# Altium schematic symbol library SYM-Passive.SchLib: 208 symbols (part 1 of 9)
Pins are listed as number, name and electrical type; pins without a type are passive.

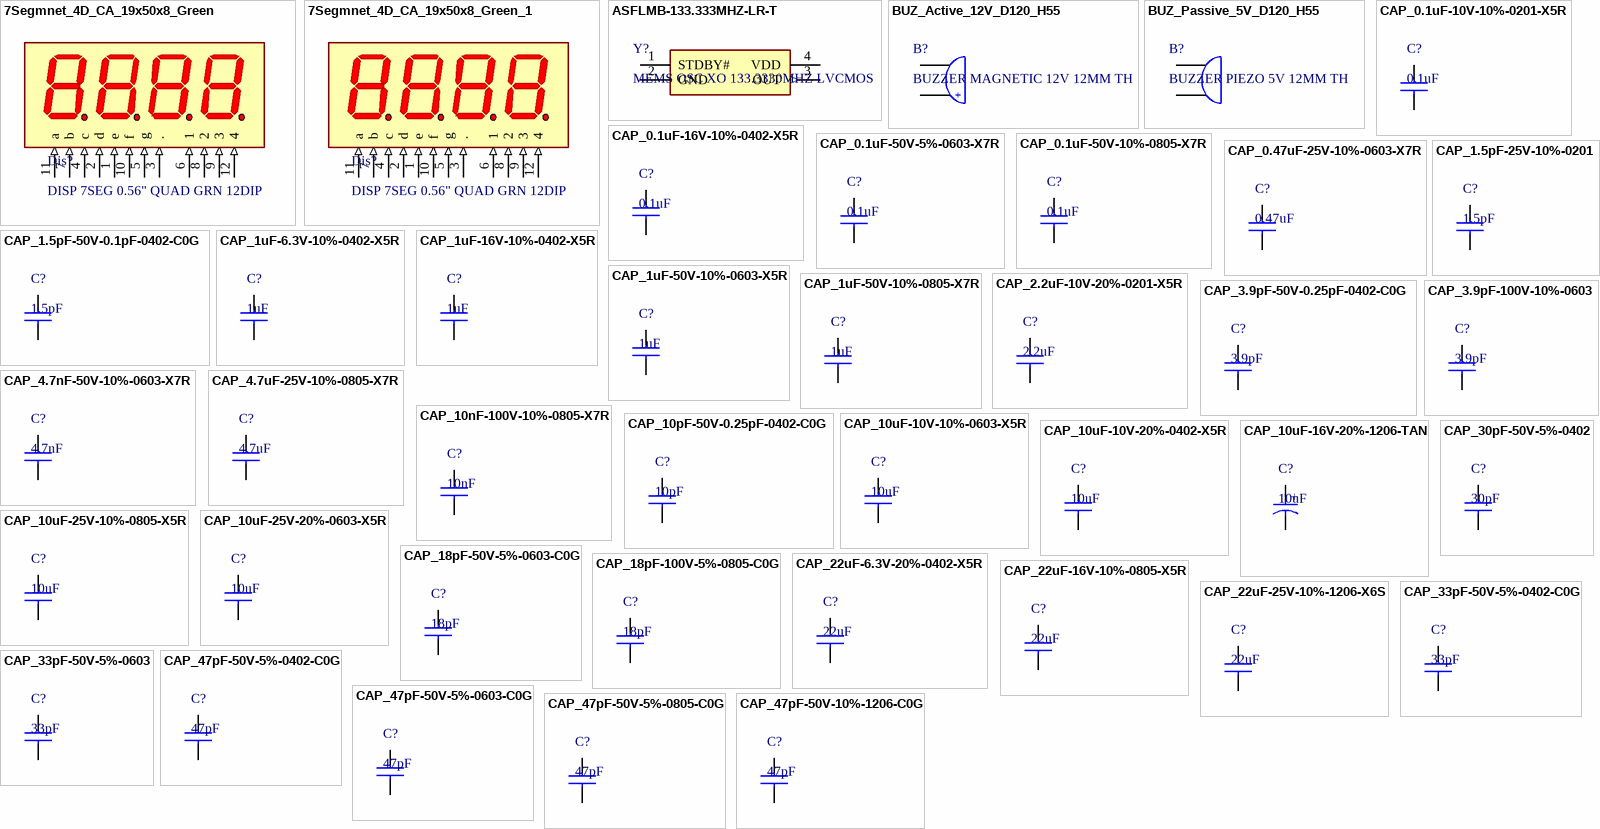
[diagram p0: symbols 7Segmnet_4D_CA_19x50x8_Green to CAP_47pF-50V-10%-1206-C0G]

## 7Segmnet_4D_CA_19x50x8_Green
designator Dis?, comment DISP 7SEG 0.56" QUAD GRN 12DIP
7-Segment Led Display, Infovue, 4, 0.56 ", Green, Common Anode, 3900 Mcd, 25 Ma; Manufacturer: Lumex; Manufacturer Part Number: LDQ-M512RI; Luminous Intensity: 3.9mcd; Forward Voltage: 2.2V; Max Power Dissipation: 105mW; Forward Current: 10mA; Operating Supply Voltage: 2.6V; Wavelength: 565nm; Supplier 1: Digi-Key; RoHS: Yes; Category: LED Displays; Stock 1: 5245; Pricing 1: 1=6/93000, 10=4/89900, 100=4/01290, 500=3/38294, 1000=3/30150 (USD); Case/Package: DIP; Color: Green; Min Operating Temperature: -40°C; Max Operating Temperature: 85°C; Package Quantity: 10; Element Configuration: Common Anode; Illumination Color: Green; Power Consumption: 105mW; Test Current: 10mA; Display Type: Segment; Length: 50.3mm; Width: 19mm; Height: 19.1mm; Lead Free: Lead Free; RoHS Compliant: Yes; ComponentLink1URL: https://datasheet.ciiva.com/1230/1423940-1230231.pdf?src-supplier=Element14; ComponentLink1Description: https://datasheet.ciiva.com/1230/1423940-1230231.pdf?src-supplier=Element14; ComponentLink2URL: https://datasheet.ciiva.com/12425/ldq-m512ri-96873-12425245.pdf?src-supplier=Mouser; ComponentLink2Description: https://datasheet.ciiva.com/12425/ldq-m512ri-96873-12425245.pdf?src-supplier=Mouser; ComponentLink3URL: https://datasheet.ciiva.com/16443/ldq-m512ri-16443706.pdf?src-supplier=Future+Electronics; ComponentLink3Description: https://datasheet.ciiva.com/16443/ldq-m512ri-16443706.pdf?src-supplier=Future+Electronics; ComponentLink4URL: https://datasheet.ciiva.com/2103/ldq-m512ri-2103901.pdf?src-supplier=Digi-Key; ComponentLink4Description: https://datasheet.ciiva.com/2103/ldq-m512ri-2103901.pdf?src-supplier=Digi-Key; Supplier Part Number 1: 67-1440-ND
footprint 7-SEGMENT_4Digit_1 (4 DIGIT 7 SEGMENT)
pins: 1 e (in), 2 d (in), 3 . (in), 4 c (in), 5 g (in), 6 1 (in), 7 b (in), 8 2 (in), 9 3 (in), 10 f (in), 11 a (in), 12 4 (in)

## 7Segmnet_4D_CA_19x50x8_Green_1
designator Dis?, comment DISP 7SEG 0.56" QUAD GRN 12DIP
7-Segment Led Display, Infovue, 4, 0.56 ", Green, Common Anode, 3900 Mcd, 25 Ma; Manufacturer: Lumex; Manufacturer Part Number: LDQ-M512RI; Luminous Intensity: 3.9mcd; Forward Voltage: 2.2V; Max Power Dissipation: 105mW; Forward Current: 10mA; Operating Supply Voltage: 2.6V; Wavelength: 565nm; Supplier 1: Digi-Key; RoHS: Yes; Category: LED Displays; Stock 1: 5245; Pricing 1: 1=6/93000, 10=4/89900, 100=4/01290, 500=3/38294, 1000=3/30150 (USD); Case/Package: DIP; Color: Green; Min Operating Temperature: -40°C; Max Operating Temperature: 85°C; Package Quantity: 10; Element Configuration: Common Anode; Illumination Color: Green; Power Consumption: 105mW; Test Current: 10mA; Display Type: Segment; Length: 50.3mm; Width: 19mm; Height: 19.1mm; Lead Free: Lead Free; RoHS Compliant: Yes; ComponentLink1URL: https://datasheet.ciiva.com/1230/1423940-1230231.pdf?src-supplier=Element14; ComponentLink1Description: https://datasheet.ciiva.com/1230/1423940-1230231.pdf?src-supplier=Element14; ComponentLink2URL: https://datasheet.ciiva.com/12425/ldq-m512ri-96873-12425245.pdf?src-supplier=Mouser; ComponentLink2Description: https://datasheet.ciiva.com/12425/ldq-m512ri-96873-12425245.pdf?src-supplier=Mouser; ComponentLink3URL: https://datasheet.ciiva.com/16443/ldq-m512ri-16443706.pdf?src-supplier=Future+Electronics; ComponentLink3Description: https://datasheet.ciiva.com/16443/ldq-m512ri-16443706.pdf?src-supplier=Future+Electronics; ComponentLink4URL: https://datasheet.ciiva.com/2103/ldq-m512ri-2103901.pdf?src-supplier=Digi-Key; ComponentLink4Description: https://datasheet.ciiva.com/2103/ldq-m512ri-2103901.pdf?src-supplier=Digi-Key; Supplier Part Number 1: 67-1440-ND
footprint 7-SEGMENT_4Digit_1 (4 DIGIT 7 SEGMENT)
pins: 1 e (in), 2 d (in), 3 . (in), 4 c (in), 5 g (in), 6 1 (in), 7 b (in), 8 2 (in), 9 3 (in), 10 f (in), 11 a (in), 12 4 (in)

## ASFLMB-133.333MHZ-LR-T
designator Y?, comment MEMS OSC XO 133.3330MHZ LVCMOS
Oscillator MEMS 133.333MHz ±25ppm (Stability) 15pF LVCMOS 55% 1.8V/2.5V/3.3V Automotive 4-Pin QFN SMD T/R; Manufacturer: Abracon; Manufacturer Part Number: ASFLMB-133.333MHZ-LR-T; Max Supply Current: 16mA; Supplier 1: Digi-Key; RoHS: Yes; Category: Oscillators; Pricing 1: 1000=1/60080 (USD); Mount: Surface Mount; Case/Package: SMD/SMT; Min Operating Temperature: -40°C; Max Operating Temperature: 85°C; Frequency Stability: 25ppm; Frequency: 133.333MHz; Packaging: Cut Tape; Length: 0.197inch; Width: 0.126inch; Height: 0.035inch; ComponentLink1URL: https://datasheet.ciiva.com/869/memspeedproflyerii-869792.pdf?src-supplier=Digi-Key; ComponentLink1Description: https://datasheet.ciiva.com/869/memspeedproflyerii-869792.pdf?src-supplier=Digi-Key; ComponentLink2URL: https://datasheet.ciiva.com/869/memspeedproflyerii-869793.pdf?src-supplier=Digi-Key; ComponentLink2Description: https://datasheet.ciiva.com/869/memspeedproflyerii-869793.pdf?src-supplier=Digi-Key; ComponentLink3URL: https://datasheet.ciiva.com/869/memspeedproflyerii-869791.pdf?src-supplier=Digi-Key; ComponentLink3Description: https://datasheet.ciiva.com/869/memspeedproflyerii-869791.pdf?src-supplier=Digi-Key; Supplier Part Number 1: 535-11077-2-ND
footprint DFN254P500X90-4N (DFN, 4-Leads, Body 3/20x5/00mm, Pitch 2/54mm, IPC Medium Density)
pins: 1 STDBY#, 2 GND (power), 3 OUT (out), 4 VDD (power)

## BUZ_Active_12V_D120_H55
designator B?, comment BUZZER MAGNETIC 12V 12MM TH
Audio Indicator Indicator Piezo 12Vdc 30mA Pin 8Vdc 2000Hz to 2600Hz Through Hole; Manufacturer: Projects Unlimited; Manufacturer Part Number: AI-1223-TWT-12V-3-R; Frequency: 2.3kHz; Min Supply Voltage (DC): 8V; Max Supply Voltage (DC): 16V; Supplier 1: Digi-Key; RoHS: Yes; Category: Audio Products; Stock 1: 6499; Pricing 1: 1=1/97000, 10=1/63300, 25=1/50960, 40=1/41950, 100=1/33270, 500=1/14400, 1000=1/11720 (USD); Mount: Through Hole; Contact Plating: Gold; Min Operating Temperature: -20°C; Max Operating Temperature: 70°C; Sensing Method: Magnetic; Packaging: Tray; Voltage Rating: 12V; Operating Supply Current: 30mA; Termination: PC Pins; Max Supply Current: 30mA; Nominal Supply Voltage (DC): 12V; Diameter: 12mm; Height: 9.5mm; ComponentLink1URL: http://www.mouser.com/ds/2/334/AI-1223-TWT-12V-3-R-532307.pdf?src-supplier=Mouser; ComponentLink1Description: http://www.mouser.com/ds/2/334/AI-1223-TWT-12V-3-R-532307.pdf?src-supplier=Mouser; ComponentLink2URL: http://www.puiaudio.com/pdf/AI-1223-TWT-12V-3-R.pdf?src-supplier=Avnet; ComponentLink2Description: http://www.puiaudio.com/pdf/AI-1223-TWT-12V-3-R.pdf?src-supplier=Avnet; ComponentLink3URL: http://www.puiaudio.com/pdf/AI-1223-TWT-12V-3-R.pdf?src-supplier=Digi-Key; ComponentLink3Description: http://www.puiaudio.com/pdf/AI-1223-TWT-12V-3-R.pdf?src-supplier=Digi-Key; Supplier Part Number 1: 668-1455-ND
footprint Buzzer-D12
pins: 1 41, 2 +

## BUZ_Passive_5V_D120_H55
designator B?, comment BUZZER PIEZO 5V 12MM TH
Audio Indicator Piezo 3VDC 5VDC 5mA 5VDC 80dBA 3900Hz to 4300Hz Through Hole Pin Bulk; Manufacturer: Mallory Sonalert; Manufacturer Part Number: PK-11N40PQ; Frequency: 4.1kHz; Supplier 1: Digi-Key; RoHS: Yes; Category: Audio Products; Stock 1: 1404; Pricing 1: 1=3/91000, 10=3/23700, 25=2/98720, 50=2/80540, 100=2/63060, 500=2/32178 (USD); Mount: Through Hole; Min Operating Temperature: -20°C; Max Operating Temperature: 100°C; Packaging: Bulk; Voltage Rating: 5V; Termination: PC Pins; Operating Supply Current: 5mA; ComponentLink1URL: http://www.mouser.com/ds/2/252/PAG-Indicators-Piezo-594425.pdf?src-supplier=Mouser; ComponentLink1Description: http://www.mouser.com/ds/2/252/PAG-Indicators-Piezo-594425.pdf?src-supplier=Mouser; ComponentLink2URL: http://www.alliedelec.com/images/products/datasheets/bm/MALLORY_SONALERT_PRODUCTS_INC/70364538.pdf?src-supplier=Allied+Electronics; ComponentLink2Description: http://www.alliedelec.com/images/products/datasheets/bm/MALLORY_SONALERT_PRODUCTS_INC/70364538.pdf?src-supplier=Allied+Electronics; ComponentLink3URL: https://www.mspindy.com/Specifications/PK-11N40PQ.pdf?src-supplier=Digi-Key; ComponentLink3Description: https://www.mspindy.com/Specifications/PK-11N40PQ.pdf?src-supplier=Digi-Key; Supplier Part Number 1: 458-1342-ND
footprint Buzzer-D12
pins: 1 41, 2 +

## CAP_0.1uF-10V-10%-0201-X5R
designator C?, comment 0.1uF
Cap Ceramic 0.1uF 10V X5R 10% Pad SMD 0201 85C T/R; Manufacturer: Samsung; Manufacturer Part Number: CL03A104KP3NNNC; Capacitance: 100nF; Supplier 1: Digi-Key; RoHS: Yes; Category: Ceramic Capacitors; Stock 1: 10669504; Pricing 1: 1=0/10000, 10=0/03100, 50=0/01660, 100=0/01360, 500=0/00974, 1000=0/00765, 2500=0/00696, 5000=0/00640 (USD); Mount: Surface Mount; Case/Package: 0201; Case Code (Metric): 0603; Case Code (Imperial): 0201; Contact Plating: Tin; Min Operating Temperature: -55°C; Max Operating Temperature: 85°C; Packaging: Tape and Reel; Tolerance: 10%; Package Quantity: 1; Voltage Rating: 10V; Dielectric: X5R; Voltage Rating (DC): 10V; Series: CL; Construction: Flat; Length: 0.6mm; Width: 0.012inch; Height: 0.3mm; Thickness: 0.013inch; Depth: 0.3mm; Radiation Hardening: No; Lead Free: Lead Free; ComponentLink1URL: https://datasheet.ciiva.com/25803/cl03a104kp3nnnc-25803204.pdf?src-supplier=Digi-Key; ComponentLink1Description: https://datasheet.ciiva.com/25803/cl03a104kp3nnnc-25803204.pdf?src-supplier=Digi-Key; ComponentLink2URL: https://datasheet.ciiva.com/26838/getdatasheetpartid-357484-26838083.pdf?src-supplier=Verical; ComponentLink2Description: https://datasheet.ciiva.com/26838/getdatasheetpartid-357484-26838083.pdf?src-supplier=Verical; Supplier Part Number 1: 1276-1115-1-ND
footprint CAPC0603X03N - 0201 (Chip Capacitor, 2-Leads, Body 0/60x0/30mm, IPC Medium Density)
footprint CAPC0603X03L - 0201 (Chip Capacitor, 2-Leads, Body 0/60x0/30mm, IPC High Density)
footprint CAPC0603X03M - 0201 (Chip Capacitor, 2-Leads, Body 0/60x0/30mm, IPC Low Density)
pins: 1, 2

## CAP_0.1uF-16V-10%-0402-X5R
designator C?, comment 0.1uF
Cap Ceramic 0.1uF 16V X5R 10% SMD 0402 85°C Paper T/R; Manufacturer: Samsung; Manufacturer Part Number: CL05A104KO5NNNC; Capacitance: 100nF; Supplier 1: Digi-Key; RoHS: Yes; Category: Ceramic Capacitors; Stock 1: 7494; Pricing 1: 1=0/10000, 10=0/02400, 50=0/01340, 100=0/01090, 500=0/00778, 1000=0/00611, 2500=0/00556, 5000=0/00511 (USD); Mount: Surface Mount; Case/Package: 0402; Case Code (Metric): 1005; Case Code (Imperial): 0402; Material: Ceramic; Min Operating Temperature: -55°C; Max Operating Temperature: 85°C; Tolerance: 10%; Voltage Rating: 16V; Packaging: Tape and Reel; Dielectric: X5R; Series: CL; Construction: Flat; Length: 1mm; Width: 0.02inch; Height: 0.5mm; Thickness: 0.022inch; Depth: 0.5mm; Radiation Hardening: No; RoHS Compliant: Yes; ComponentLink1URL: https://datasheet.ciiva.com/16207/cl05a104ko5nnnc-16207569.pdf?src-supplier=Future+Electronics; ComponentLink1Description: https://datasheet.ciiva.com/16207/cl05a104ko5nnnc-16207569.pdf?src-supplier=Future+Electronics; ComponentLink2URL: https://datasheet.ciiva.com/26838/getdatasheetpartid-355271-26838147.pdf?src-supplier=Verical; ComponentLink2Description: https://datasheet.ciiva.com/26838/getdatasheetpartid-355271-26838147.pdf?src-supplier=Verical; ComponentLink3URL: https://datasheet.ciiva.com/25709/cl05a104ko5nnnc-25709188.pdf?src-supplier=Digi-Key; ComponentLink3Description: https://datasheet.ciiva.com/25709/cl05a104ko5nnnc-25709188.pdf?src-supplier=Digi-Key; ComponentLink4URL: https://datasheet.ciiva.com/29198/556090-da-01-en-vs-kondensator-0402-100-0nf-16v-10000st-29198108.pdf?src-supplier=Conrad; ComponentLink4Description: https://datasheet.ciiva.com/29198/556090-da-01-en-vs-kondensator-0402-100-0nf-16v-10000st-29198108.pdf?src-supplier=Conrad; Supplier Part Number 1: 1276-1234-1-ND
footprint CAPC1005X07N - 0402 (Chip Capacitor, 2-Leads, Body 1/00x0/50mm, IPC Medium Density)
footprint CAPC1005X07M - 0402 (Chip Capacitor, 2-Leads, Body 1/00x0/50mm, IPC Low Density)
footprint CAPC1005X07L - 0402 (Chip Capacitor, 2-Leads, Body 1/00x0/50mm, IPC High Density)
pins: 1, 2

## CAP_0.1uF-50V-5%-0603-X7R
designator C?, comment 0.1uF
General, Standard, Normal, 125℃, 0603, RoHS; Manufacturer: Samsung; Manufacturer Part Number: CL10B104JB8NNND; Dielectric: X7R; Voltage Rating (DC): 50V; Tolerance: 5%; Capacitance: 100nF; Supplier 1: Digi-Key; RoHS: Yes; Category: Ceramic Capacitors; Pricing 1: 100000=0/00531 (USD); Case/Package: 0603; RoHS Compliant: Yes; Supplier Part Number 1: 1276-CL10B104JB8NNNDTR-ND
footprint CAPC1608X07N - 0603 (Chip Capacitor, 2-Leads, Body 1/60x0/80mm, IPC Medium Density)
footprint CAPC1608X07M - 0603 (Chip Capacitor, 2-Leads, Body 1/60x0/80mm, IPC Low Density)
footprint CAPC1608X07L - 0603 (Chip Capacitor, 2-Leads, Body 1/60x0/80mm, IPC High Density)
pins: 1, 2

## CAP_0.1uF-50V-10%-0805-X7R
designator C?, comment 0.1uF
Ceramic capacitor SMD-0805 100nF /50V X7R# K +-10%, Samsung, RoHS; Manufacturer Part Number: CL21B104KBCNNNC; Tolerance: 10%; Voltage Rating: 50V; Dielectric: X7R; Supplier 1: Digi-Key; Manufacturer: Samsung; RoHS: Yes; Category: Ceramic Capacitors; Stock 1: 3723691; Pricing 1: 1=0/10000, 10=0/04800, 50=0/02620, 100=0/02140, 500=0/01528, 1000=0/01201 (USD); Mount: Surface Mount; Case/Package: 0805; Case Code (Metric): 2012; Case Code (Imperial): 0805; Material: Ceramic; Contact Plating: Tin; Min Operating Temperature: -55°C; Max Operating Temperature: 125°C; Packaging: Tape and Reel; Capacitance: 100nF; Voltage: 50V; Voltage Rating (DC): 50V; Series: CL; Construction: Flat; Length: 2mm; Width: 0.049inch; Height: 0.85mm; Thickness: 0.037inch; Depth: 1.25mm; Radiation Hardening: No; Lead Free: Lead Free; RoHS Compliant: Yes; ComponentLink1URL: https://datasheet.ciiva.com/25710/cl21b104kbcnnnc-25710182.pdf?src-supplier=Digi-Key; ComponentLink1Description: https://datasheet.ciiva.com/25710/cl21b104kbcnnnc-25710182.pdf?src-supplier=Digi-Key; ComponentLink2URL: https://datasheet.ciiva.com/29199/454152-da-01-en-vs-kondensator-0805-29199814.pdf?src-supplier=Conrad; ComponentLink2Description: https://datasheet.ciiva.com/29199/454152-da-01-en-vs-kondensator-0805-29199814.pdf?src-supplier=Conrad; Supplier Part Number 1: 1276-1003-1-ND
footprint CAPC2012X14N - 0805 (Chip Capacitor, 2-Leads, Body 2/00x1/25mm, IPC Medium Density)
footprint CAPC2012X14M - 0805 (Chip Capacitor, 2-Leads, Body 2/00x1/25mm, IPC Low Density)
footprint CAPC2012X14L - 0805 (Chip Capacitor, 2-Leads, Body 2/00x1/25mm, IPC High Density)
pins: 1, 2

## CAP_0.47uF-25V-10%-0603-X7R
designator C?, comment 0.47uF
CAP CER 0.47UF 25V X7R 0603; Manufacturer: Murata; Manufacturer Part Number: GRM188R71E474KA12D; Material: Ceramic; Tolerance: 10%; Capacitance: 470nF; Voltage: 50V; Supplier 1: Digi-Key; RoHS: Yes; Category: Ceramic Capacitors; Stock 1: 1825634; Pricing 1: 1=0/20000, 10=0/13400, 50=0/08040, 100=0/06800, 500=0/04650, 1000=0/04114 (USD); Mount: Surface Mount; Case/Package: 0603; Number of Pins: 2; Case Code (Metric): 1608; Case Code (Imperial): 0603; Min Operating Temperature: -55°C; Max Operating Temperature: 125°C; Packaging: Cut Tape; Voltage Rating: 25V; Package Quantity: 4000; Voltage Rating (DC): 25V; Dielectric: X7R; Termination: SMD/SMT; Series: GRM; Construction: Flat; Length: 1.6mm; Width: 0.031inch; Height: 0.8mm; Thickness: 0.035inch; Depth: 0.8mm; REACH SVHC: No SVHC; Lead Free: Lead Free; RoHS Compliant: Yes; ComponentLink1URL: https://datasheet.ciiva.com/7937/1747458-7937650.pdf?src-supplier=Element14; ComponentLink1Description: https://datasheet.ciiva.com/7937/1747458-7937650.pdf?src-supplier=Element14; ComponentLink2URL: https://datasheet.ciiva.com/34302/1857559-34302862.pdf?src-supplier=Jameco; ComponentLink2Description: https://datasheet.ciiva.com/34302/1857559-34302862.pdf?src-supplier=Jameco; ComponentLink3URL: https://datasheet.ciiva.com/134/grm188r71e474ka12-01-134310.pdf?src-supplier=Digi-Key; ComponentLink3Description: https://datasheet.ciiva.com/134/grm188r71e474ka12-01-134310.pdf?src-supplier=Digi-Key; ComponentLink4URL: https://datasheet.ciiva.com/16293/grm188r71e474ka12d-16293088.pdf?src-supplier=Future+Electronics; ComponentLink4Description: https://datasheet.ciiva.com/16293/grm188r71e474ka12d-16293088.pdf?src-supplier=Future+Electronics; ComponentLink5URL: https://datasheet.ciiva.com/29199/454518-da-01-en-vs-kondensator-0603-29199596.pdf?src-supplier=Conrad; ComponentLink5Description: https://datasheet.ciiva.com/29199/454518-da-01-en-vs-kondensator-0603-29199596.pdf?src-supplier=Conrad; ComponentLink6URL: https://datasheet.ciiva.com/22703/1747458-22703340.pdf?src-supplier=Element14; ComponentLink6Description: https://datasheet.ciiva.com/22703/1747458-22703340.pdf?src-supplier=Element14; ComponentLink7URL: https://datasheet.ciiva.com/134/grm188r71e474ka12-01-134309.pdf?src-supplier=Digi-Key; ComponentLink7Description: https://datasheet.ciiva.com/134/grm188r71e474ka12-01-134309.pdf?src-supplier=Digi-Key; ComponentLink8URL: https://datasheet.ciiva.com/134/grm188r71e474ka12-01-134308.pdf?src-supplier=Digi-Key; ComponentLink8Description: https://datasheet.ciiva.com/134/grm188r71e474ka12-01-134308.pdf?src-supplier=Digi-Key; Supplier Part Number 1: 490-3291-1-ND
footprint CAPC1608X07N - 0603 (Chip Capacitor, 2-Leads, Body 1/60x0/80mm, IPC Medium Density)
footprint CAPC1608X07M - 0603 (Chip Capacitor, 2-Leads, Body 1/60x0/80mm, IPC Low Density)
footprint CAPC1608X07L - 0603 (Chip Capacitor, 2-Leads, Body 1/60x0/80mm, IPC High Density)
pins: 1, 2

## CAP_1.5pF-25V-10%-0201
designator C?, comment 1.5pF
Cap Ceramic 1.5pF 25V C0G 0.1pF SMD 0201 125C Paper T/R; Manufacturer: Johanson; Manufacturer Part Number: 250R05L1R5BV4T; Supplier 1: Digi-Key; RoHS: Yes; Category: Ceramic Capacitors; Stock 1: 781784; Pricing 1: 1=0/19000, 10=0/13200, 50=0/07500, 100=0/06220, 500=0/04362, 1000=0/03611, 2500=0/03360, 5000=0/03074 (USD); Mount: Surface Mount; Case/Package: 0201; Number of Pins: 2; Case Code (Imperial): 0201; Case Code (Metric): 0603; Contact Plating: Tin; Min Operating Temperature: -55°C; Max Operating Temperature: 125°C; Voltage Rating: 25V; Capacitance: 1.5pF; Packaging: Tape and Reel; Termination: SMD/SMT; Series: L; Voltage Rating (DC): 25V; Package Quantity: 15000; Dielectric: C0G; Construction: Flat; Length: 0.6mm; Width: 0.3mm; Height: 0.3mm; Thickness: 0.013inch; Depth: 0.3mm; REACH SVHC: No SVHC; RoHS Compliant: Yes; ComponentLink1URL: https://datasheet.ciiva.com/1470/1318610-1470404.pdf?src-supplier=Farnell; ComponentLink1Description: https://datasheet.ciiva.com/1470/1318610-1470404.pdf?src-supplier=Farnell; ComponentLink2URL: https://datasheet.ciiva.com/22697/1731432-22697448.pdf?src-supplier=Element14; ComponentLink2Description: https://datasheet.ciiva.com/22697/1731432-22697448.pdf?src-supplier=Element14; ComponentLink3URL: https://datasheet.ciiva.com/1461/1731432-1461261.pdf?src-supplier=Element14; ComponentLink3Description: https://datasheet.ciiva.com/1461/1731432-1461261.pdf?src-supplier=Element14; Supplier Part Number 1: 712-1185-1-ND
footprint CAPC0603X03N - 0201 (Chip Capacitor, 2-Leads, Body 0/60x0/30mm, IPC Medium Density)
footprint CAPC0603X03M - 0201 (Chip Capacitor, 2-Leads, Body 0/60x0/30mm, IPC Low Density)
footprint CAPC0603X03L - 0201 (Chip Capacitor, 2-Leads, Body 0/60x0/30mm, IPC High Density)
pins: 1, 2

## CAP_1.5pF-50V-0.1pF-0402-C0G
designator C?, comment 1.5pF
Cap Ceramic 1.5pF 50V C0G 0.1pF SMD 0402 125°C Paper T/R; Manufacturer: Samsung; Manufacturer Part Number: CL05C1R5BB5NNNC; Tolerance: 0.1%; Temperature Coefficient: 300ppm/°C; Supplier 1: Digi-Key; RoHS: Yes; Category: Ceramic Capacitors; Stock 1: 515829; Pricing 1: 1=0/10000, 10=0/03300, 50=0/01780, 100=0/01460, 500=0/01042, 1000=0/00819, 2500=0/00745, 5000=0/00685 (USD); Mount: Surface Mount; Case/Package: 0402; Case Code (Metric): 1005; Case Code (Imperial): 0402; Min Operating Temperature: -55°C; Max Operating Temperature: 125°C; Capacitance: 1.5pF; Packaging: Tape and Reel; Voltage Rating: 50V; Dielectric: C0G; Voltage: 50V; Voltage Rating (DC): 50V; Series: CL; Construction: Flat; Length: 1mm; Width: 0.02inch; Height: 0.5mm; Thickness: 0.022inch; Depth: 0.5mm; Radiation Hardening: No; Lead Free: Lead Free; RoHS Compliant: Yes; ComponentLink1URL: https://datasheet.ciiva.com/16428/cl05c1r5bb5nnnc-16428802.pdf?src-supplier=Future+Electronics; ComponentLink1Description: https://datasheet.ciiva.com/16428/cl05c1r5bb5nnnc-16428802.pdf?src-supplier=Future+Electronics; ComponentLink2URL: https://datasheet.ciiva.com/15195/getdatasheetpartid-499847-15195675.pdf?src-supplier=Verical; ComponentLink2Description: https://datasheet.ciiva.com/15195/getdatasheetpartid-499847-15195675.pdf?src-supplier=Verical; ComponentLink3URL: https://datasheet.ciiva.com/26310/mlcc-catalogdownload2013-eng-26310345.pdf?src-supplier=Distrelec; ComponentLink3Description: https://datasheet.ciiva.com/26310/mlcc-catalogdownload2013-eng-26310345.pdf?src-supplier=Distrelec; Supplier Part Number 1: 1276-1656-1-ND
footprint CAPC1005X07N - 0402 (Chip Capacitor, 2-Leads, Body 1/00x0/50mm, IPC Medium Density)
footprint CAPC1005X07M - 0402 (Chip Capacitor, 2-Leads, Body 1/00x0/50mm, IPC Low Density)
footprint CAPC1005X07L - 0402 (Chip Capacitor, 2-Leads, Body 1/00x0/50mm, IPC High Density)
pins: 1, 2

## CAP_1uF-6.3V-10%-0402-X5R
designator C?, comment 1uF
0402 1 uF 6.3 V ±10% Tolerance X5R SMT Multilayer Ceramic Capacitor; Manufacturer: Yageo; Manufacturer Part Number: CC0402KRX5R5BB105; Voltage Rating: 6.3V; Supplier 1: Digi-Key; RoHS: Yes; Category: Ceramic Capacitors; Stock 1: 2269; Pricing 1: 1=0/12000, 10=0/08700, 50=0/04780, 100=0/03900, 500=0/02784, 1000=0/02187, 2500=0/01988, 5000=0/01829 (USD); Mount: Surface Mount; Case/Package: 0402; Number of Pins: 2; Case Code (Metric): 1005; Case Code (Imperial): 0402; Dielectric Material: Ceramic; Min Operating Temperature: -55°C; Max Operating Temperature: 85°C; Capacitance: 1uF; Tolerance: 10%; Voltage Rating (DC): 6.3V; Package Quantity: 1; Packaging: Tape and Reel; Dielectric: X5R; Termination: SMD/SMT; Resistor Type: Ceramic; Series: CC; Length: 1mm; Width: 0.02inch; Height: 0.5mm; Thickness: 0.022inch; Depth: 0.5mm; Radiation Hardening: No; REACH SVHC: No SVHC; Lead Free: Lead Free; Halogen Free: Halogen Free; RoHS Compliant: Yes; ComponentLink1URL: https://datasheet.ciiva.com/5789/70765-5789520.pdf?src-supplier=Farnell; ComponentLink1Description: https://datasheet.ciiva.com/5789/70765-5789520.pdf?src-supplier=Farnell; ComponentLink2URL: https://datasheet.ciiva.com/176/mlccorderingcode-176609.pdf?src-supplier=Digi-Key; ComponentLink2Description: https://datasheet.ciiva.com/176/mlccorderingcode-176609.pdf?src-supplier=Digi-Key; ComponentLink3URL: https://datasheet.ciiva.com/176/mlccorderingcode-176610.pdf?src-supplier=Digi-Key; ComponentLink3Description: https://datasheet.ciiva.com/176/mlccorderingcode-176610.pdf?src-supplier=Digi-Key; ComponentLink4URL: https://datasheet.ciiva.com/176/mlccorderingcode-176611.pdf?src-supplier=Digi-Key; ComponentLink4Description: https://datasheet.ciiva.com/176/mlccorderingcode-176611.pdf?src-supplier=Digi-Key; ComponentLink5URL: https://datasheet.ciiva.com/8033/1525783-8033643.pdf?src-supplier=Element14; ComponentLink5Description: https://datasheet.ciiva.com/8033/1525783-8033643.pdf?src-supplier=Element14; ComponentLink6URL: https://datasheet.ciiva.com/16624/upy-gphc-x5r-4v-to-50v-12-16624731.pdf?src-supplier=Avnet+Europe; ComponentLink6Description: https://datasheet.ciiva.com/16624/upy-gphc-x5r-4v-to-50v-12-16624731.pdf?src-supplier=Avnet+Europe; ComponentLink7URL: https://datasheet.ciiva.com/8033/1525783-8033644.pdf?src-supplier=Element14; ComponentLink7Description: https://datasheet.ciiva.com/8033/1525783-8033644.pdf?src-supplier=Element14; ComponentLink8URL: https://datasheet.ciiva.com/28450/1359354-28450285.pdf?src-supplier=Element14; ComponentLink8Description: https://datasheet.ciiva.com/28450/1359354-28450285.pdf?src-supplier=Element14; ComponentLink9URL: https://datasheet.ciiva.com/8033/70765-8033646.pdf?src-supplier=Element14; ComponentLink9Description: https://datasheet.ciiva.com/8033/70765-8033646.pdf?src-supplier=Element14; ComponentLink10URL: https://datasheet.ciiva.com/11464/upy-gphc-x5r-4v-to-50v-12-11464863.pdf?src-supplier=Avnet; ComponentLink10Description: https://datasheet.ciiva.com/11464/upy-gphc-x5r-4v-to-50v-12-11464863.pdf?src-supplier=Avnet; Supplier Part Number 1: 311-1438-1-ND
footprint CAPC1005X07N - 0402 (Chip Capacitor, 2-Leads, Body 1/00x0/50mm, IPC Medium Density)
footprint CAPC1005X07M - 0402 (Chip Capacitor, 2-Leads, Body 1/00x0/50mm, IPC Low Density)
footprint CAPC1005X07L - 0402 (Chip Capacitor, 2-Leads, Body 1/00x0/50mm, IPC High Density)
pins: 1, 2

## CAP_1uF-16V-10%-0402-X5R
designator C?, comment 1uF
CAP CER 1UF 16V X5R 0402; Manufacturer: Samsung; Manufacturer Part Number: CL05A105KO5NNNC; Tolerance: 10%; Supplier 1: Digi-Key; RoHS: Yes; Category: Ceramic Capacitors; Stock 1: 6552159; Pricing 1: 1=0/10000, 10=0/04000, 50=0/02200, 100=0/01800, 500=0/01286, 1000=0/01011, 2500=0/00919, 5000=0/00846 (USD); Mount: Surface Mount; Case/Package: 0402; Case Code (Metric): 1005; Case Code (Imperial): 0402; Contact Plating: Tin; Min Operating Temperature: -55°C; Max Operating Temperature: 85°C; Packaging: Tape and Reel; Capacitance: 1uF; Package Quantity: 1; Voltage Rating: 16V; Dielectric: X5R; Voltage: 16V; Series: CL; Construction: Flat; Length: 1mm; Width: 0.02inch; Height: 0.5mm; Thickness: 0.022inch; Depth: 0.5mm; Radiation Hardening: No; RoHS Compliant: Yes; ComponentLink1URL: https://datasheet.ciiva.com/16207/cl05a105ko5nnnc-16207571.pdf?src-supplier=Future+Electronics; ComponentLink1Description: https://datasheet.ciiva.com/16207/cl05a105ko5nnnc-16207571.pdf?src-supplier=Future+Electronics; ComponentLink2URL: https://datasheet.ciiva.com/15195/getdatasheetpartid-355272-15195629.pdf?src-supplier=Verical; ComponentLink2Description: https://datasheet.ciiva.com/15195/getdatasheetpartid-355272-15195629.pdf?src-supplier=Verical; Supplier Part Number 1: 1276-1067-1-ND
footprint CAPC1005X07N - 0402 (Chip Capacitor, 2-Leads, Body 1/00x0/50mm, IPC Medium Density)
footprint CAPC1005X07M - 0402 (Chip Capacitor, 2-Leads, Body 1/00x0/50mm, IPC Low Density)
footprint CAPC1005X07L - 0402 (Chip Capacitor, 2-Leads, Body 1/00x0/50mm, IPC High Density)
pins: 1, 2

## CAP_1uF-50V-10%-0603-X5R
designator C?, comment 1uF
Ceramic capacitor SMD-0603 1000nF/50V X5R# K +-10%, Samsung, RoHS; Manufacturer Part Number: CL10A105KB8NNNC; Tolerance: 10%; Voltage Rating: 50V; Dielectric: X5R; Supplier 1: Digi-Key; Manufacturer: Samsung; RoHS: Yes; Category: Ceramic Capacitors; Pricing 1: 1=0/15000, 10=0/10700, 50=0/06060, 100=0/05030, 500=0/03526, 1000=0/02919 (USD); Mount: Surface Mount; Case/Package: 0603; Case Code (Metric): 1608; Case Code (Imperial): 0603; Contact Plating: Tin; Min Operating Temperature: -55°C; Max Operating Temperature: 85°C; Package Quantity: 1; Packaging: Tape and Reel; Capacitance: 1uF; Termination: Wraparound; Series: CL; Construction: Flat; Length: 1.6mm; Width: 0.031inch; Thickness: 0.035inch; Depth: 0.8mm; Radiation Hardening: No; RoHS Compliant: Yes; ComponentLink1URL: https://datasheet.ciiva.com/26877/getdatasheetpartid-753736-26877879.pdf?src-supplier=Verical; ComponentLink1Description: https://datasheet.ciiva.com/26877/getdatasheetpartid-753736-26877879.pdf?src-supplier=Verical; Supplier Part Number 1: 1276-1860-1-ND
footprint CAPC1608X07N - 0603 (Chip Capacitor, 2-Leads, Body 1/60x0/80mm, IPC Medium Density)
footprint CAPC1608X07M - 0603 (Chip Capacitor, 2-Leads, Body 1/60x0/80mm, IPC Low Density)
footprint CAPC1608X07L - 0603 (Chip Capacitor, 2-Leads, Body 1/60x0/80mm, IPC High Density)
pins: 1, 2

## CAP_1uF-50V-10%-0805-X7R
designator C?, comment 1uF
Cap Ceramic 1uF 50V X7R 10% SMD 0805 125°C Embossed Plastic T/R; Manufacturer: Samsung; Manufacturer Part Number: CL21B105KBFNNNG; Supplier 1: Digi-Key; RoHS: Yes; Category: Ceramic Capacitors; Stock 1: 140639; Pricing 1: 1=0/12000, 10=0/08600, 50=0/04900, 100=0/04060, 500=0/02848, 1000=0/02358 (USD); Mount: Surface Mount; Case/Package: 0805; Case Code (Metric): 2012; Case Code (Imperial): 0805; Material: Ceramic; Contact Plating: Tin; Min Operating Temperature: -55°C; Max Operating Temperature: 125°C; Tolerance: 10%; Packaging: Tape and Reel; Capacitance: 1uF; Voltage Rating: 50V; Package Quantity: 3000; Dielectric: X7R; Termination: Wraparound; Voltage: 50V; Series: CL; Construction: Flat; Length: 2mm; Width: 0.049inch; Thickness: 0.053inch; Depth: 1.25mm; RoHS Compliant: Yes; ComponentLink1URL: https://datasheet.ciiva.com/25733/cl21b105kbfnnng-25733278.pdf?src-supplier=Digi-Key; ComponentLink1Description: https://datasheet.ciiva.com/25733/cl21b105kbfnnng-25733278.pdf?src-supplier=Digi-Key; ComponentLink2URL: https://datasheet.ciiva.com/29199/455898-da-01-en-vs-kondensator-0805-29199201.pdf?src-supplier=Conrad; ComponentLink2Description: https://datasheet.ciiva.com/29199/455898-da-01-en-vs-kondensator-0805-29199201.pdf?src-supplier=Conrad; ComponentLink3URL: https://datasheet.ciiva.com/26310/mlcc-catalogdownload2013-eng-26310125.pdf?src-supplier=Distrelec; ComponentLink3Description: https://datasheet.ciiva.com/26310/mlcc-catalogdownload2013-eng-26310125.pdf?src-supplier=Distrelec; ComponentLink4URL: https://datasheet.ciiva.com/16428/cl05b104kq5nnnc-16428872.pdf?src-supplier=Future+Electronics; ComponentLink4Description: https://datasheet.ciiva.com/16428/cl05b104kq5nnnc-16428872.pdf?src-supplier=Future+Electronics; Supplier Part Number 1: 1276-6470-1-ND
footprint CAPC2012X14N - 0805 (Chip Capacitor, 2-Leads, Body 2/00x1/25mm, IPC Medium Density)
footprint CAPC2012X14M - 0805 (Chip Capacitor, 2-Leads, Body 2/00x1/25mm, IPC Low Density)
footprint CAPC2012X14L - 0805 (Chip Capacitor, 2-Leads, Body 2/00x1/25mm, IPC High Density)
pins: 1, 2

## CAP_2.2uF-10V-20%-0201-X5R
designator C?, comment 2.2uF
CL03 Series 0201 2.2 uF 10 V ±20% Tolerance X5R SMT Multilayer Ceramic Capacitor; Manufacturer: Samsung; Manufacturer Part Number: CL03A225MP3CRNC; Voltage Rating: 10V; Supplier 1: Digi-Key; RoHS: Yes; Category: Ceramic Capacitors; Stock 1: 352326; Pricing 1: 1=0/35000, 10=0/24600, 50=0/17240, 100=0/14780, 500=0/11088, 1000=0/09363, 2500=0/08870, 5000=0/08378 (USD); Mount: Surface Mount; Case/Package: 0201; Case Code (Metric): 0603; Case Code (Imperial): 0201; Min Operating Temperature: -55°C; Max Operating Temperature: 85°C; Packaging: Tape and Reel; Capacitance: 2.2uF; Tolerance: 20%; Length: 0.024inch; Width: 0.012inch; Thickness: 0.013inch; Lead Free: Lead Free; RoHS Compliant: Yes; ComponentLink1URL: http://www.farnell.com/datasheets/2710124.pdf?src-supplier=Farnell; ComponentLink1Description: http://www.farnell.com/datasheets/2710124.pdf?src-supplier=Farnell; ComponentLink2URL: http://www.samsungsem.com/kr/support/library/product-catalog/mlcc.jsp?src-supplier=Digi-Key; ComponentLink2Description: http://www.samsungsem.com/kr/support/library/product-catalog/mlcc.jsp?src-supplier=Digi-Key; ComponentLink3URL: http://www.farnell.com/datasheets/2710124.pdf?src-supplier=Element14; ComponentLink3Description: http://www.farnell.com/datasheets/2710124.pdf?src-supplier=Element14; ComponentLink4URL: http://www.farnell.com/datasheets/2710124.pdf?src-supplier=Newark; ComponentLink4Description: http://www.farnell.com/datasheets/2710124.pdf?src-supplier=Newark; ComponentLink5URL: http://www.samsungsem.com/global/support/library/product-catalog/__icsFiles/afieldfile/2014/11/13/MLCC.pdf?src-supplier=Avnet; ComponentLink5Description: http://www.samsungsem.com/global/support/library/product-catalog/__icsFiles/afieldfile/2014/11/13/MLCC.pdf?src-supplier=Avnet; Supplier Part Number 1: 1276-6829-1-ND
footprint CAPC0603X03N - 0201 (Chip Capacitor, 2-Leads, Body 0/60x0/30mm, IPC Medium Density)
footprint CAPC0603X03M - 0201 (Chip Capacitor, 2-Leads, Body 0/60x0/30mm, IPC Low Density)
footprint CAPC0603X03L - 0201 (Chip Capacitor, 2-Leads, Body 0/60x0/30mm, IPC High Density)
pins: 1, 2

## CAP_3.9pF-50V-0.25pF-0402-C0G
designator C?, comment 3.9pF
CAP CER 3.9PF 50V C0G/NP0 0402; Manufacturer: Samsung; Manufacturer Part Number: CL05C3R9CB5NNNC; Material: Ceramic; Dielectric: C0G; Temperature Coefficient: 300ppm/°C; Supplier 1: Digi-Key; RoHS: Yes; Category: Ceramic Capacitors; Stock 1: 99001; Pricing 1: 1=0/10000, 10=0/03800, 50=0/02040, 100=0/01670, 500=0/01194, 1000=0/00938, 2500=0/00852, 5000=0/00784 (USD); Mount: Surface Mount; Case/Package: 0402; Case Code (Metric): 1005; Case Code (Imperial): 0402; Min Operating Temperature: -55°C; Max Operating Temperature: 125°C; Capacitance: 3.9pF; Packaging: Tape and Reel; Voltage Rating: 50V; Package Quantity: 1; Voltage: 50V; Voltage Rating (DC): 50V; Series: CL; Construction: Flat; Length: 1mm; Width: 0.02inch; Height: 0.5mm; Thickness: 0.022inch; Depth: 0.5mm; Radiation Hardening: No; Lead Free: Lead Free; RoHS Compliant: Yes; ComponentLink1URL: https://datasheet.ciiva.com/15195/getdatasheetpartid-493407-15195692.pdf?src-supplier=Verical; ComponentLink1Description: https://datasheet.ciiva.com/15195/getdatasheetpartid-493407-15195692.pdf?src-supplier=Verical; ComponentLink2URL: https://datasheet.ciiva.com/29198/458912-da-01-en-vs-kondensator-0402-29198310.pdf?src-supplier=Conrad; ComponentLink2Description: https://datasheet.ciiva.com/29198/458912-da-01-en-vs-kondensator-0402-29198310.pdf?src-supplier=Conrad; ComponentLink3URL: https://datasheet.ciiva.com/16437/cl05b104kq5nnnc-16437334.pdf?src-supplier=Future+Electronics; ComponentLink3Description: https://datasheet.ciiva.com/16437/cl05b104kq5nnnc-16437334.pdf?src-supplier=Future+Electronics; Supplier Part Number 1: 1276-1695-1-ND
footprint CAPC1005X07N - 0402 (Chip Capacitor, 2-Leads, Body 1/00x0/50mm, IPC Medium Density)
footprint CAPC1005X07M - 0402 (Chip Capacitor, 2-Leads, Body 1/00x0/50mm, IPC Low Density)
footprint CAPC1005X07L - 0402 (Chip Capacitor, 2-Leads, Body 1/00x0/50mm, IPC High Density)
pins: 1, 2

## CAP_3.9pF-100V-10%-0603
designator C?, comment 3.9pF
Cap Ceramic 3.9pF 100V C0G 0.25pF SMD 0603 125°C Cardboard T/R; Manufacturer: Samsung; Manufacturer Part Number: CL10C3R9CC81PNC; Supplier 1: Digi-Key; RoHS: Yes; Category: Ceramic Capacitors; Mount: Surface Mount; Case/Package: 0603; Case Code (Metric): 1608; Case Code (Imperial): 0603; Min Operating Temperature: -55°C; Max Operating Temperature: 125°C; Packaging: Tape and Reel; Capacitance: 3.9pF; Voltage Rating: 100V; Length: 0.063inch; Width: 0.031inch; Thickness: 0.035inch; Ratings: AEC-Q200; RoHS Compliant: No; ComponentLink1URL: http://www.samsungsem.com/kr/support/library/product-catalog/mlcc.jsp?src-supplier=Digi-Key; ComponentLink1Description: http://www.samsungsem.com/kr/support/library/product-catalog/mlcc.jsp?src-supplier=Digi-Key; ComponentLink2URL: http://www.samsungsem.com/kr/support/product-search/mlcc/CL10C3R9CC81PNC.jsp?src-supplier=Digi-Key; ComponentLink2Description: http://www.samsungsem.com/kr/support/product-search/mlcc/CL10C3R9CC81PNC.jsp?src-supplier=Digi-Key; Supplier Part Number 1: 1276-6620-1-ND
footprint CAPC1608X07N - 0603 (Chip Capacitor, 2-Leads, Body 1/60x0/80mm, IPC Medium Density)
footprint CAPC1608X07M - 0603 (Chip Capacitor, 2-Leads, Body 1/60x0/80mm, IPC Low Density)
footprint CAPC1608X07L - 0603 (Chip Capacitor, 2-Leads, Body 1/60x0/80mm, IPC High Density)
pins: 1, 2

## CAP_4.7nF-50V-10%-0603-X7R
designator C?, comment 4.7nF
Ceramic capacitor SMD-0603 4, 7nF/50V X7R# K +-10%, Samsung, RoHS; Manufacturer Part Number: CL10B472KB8NNNC; Tolerance: 5%; Dielectric: C0G; Voltage: 50V; Supplier 1: Digi-Key; Manufacturer: Samsung; RoHS: Yes; Category: Ceramic Capacitors; Stock 1: 4698050; Pricing 1: 1=0/10000, 10=0/02900, 50=0/01600, 100=0/01300, 500=0/00932, 1000=0/00732 (USD); Mount: Surface Mount; Case/Package: 0603; Case Code (Metric): 1608; Case Code (Imperial): 0603; Material: Ceramic; Contact Plating: Tin; Min Operating Temperature: -55°C; Max Operating Temperature: 125°C; Capacitance: 4.7nF; Voltage Rating (DC): 50V; Packaging: Tape and Reel; Voltage Rating: 50V; Series: CL; Construction: Flat; Length: 1.6mm; Width: 0.031inch; Height: 0.8mm; Depth: 0.8mm; Thickness: 0.035inch; Radiation Hardening: No; Lead Free: Lead Free; RoHS Compliant: Yes; ComponentLink1URL: https://datasheet.ciiva.com/25709/cl10b472kb8nnnc-25709729.pdf?src-supplier=Digi-Key; ComponentLink1Description: https://datasheet.ciiva.com/25709/cl10b472kb8nnnc-25709729.pdf?src-supplier=Digi-Key; ComponentLink2URL: https://datasheet.ciiva.com/15195/getdatasheetpartid-359559-15195760.pdf?src-supplier=Verical; ComponentLink2Description: https://datasheet.ciiva.com/15195/getdatasheetpartid-359559-15195760.pdf?src-supplier=Verical; ComponentLink3URL: https://datasheet.ciiva.com/29198/457744-da-01-en-vs-kondensator-0603-29198688.pdf?src-supplier=Conrad; ComponentLink3Description: https://datasheet.ciiva.com/29198/457744-da-01-en-vs-kondensator-0603-29198688.pdf?src-supplier=Conrad; ComponentLink4URL: https://datasheet.ciiva.com/26310/mlcc-catalogdownload2013-eng-26310293.pdf?src-supplier=Distrelec; ComponentLink4Description: https://datasheet.ciiva.com/26310/mlcc-catalogdownload2013-eng-26310293.pdf?src-supplier=Distrelec; ComponentLink5URL: https://datasheet.ciiva.com/16382/cl05b104kq5nnnc-16382821.pdf?src-supplier=Future+Electronics; ComponentLink5Description: https://datasheet.ciiva.com/16382/cl05b104kq5nnnc-16382821.pdf?src-supplier=Future+Electronics; Supplier Part Number 1: 1276-1098-1-ND
footprint CAPC1608X07N - 0603 (Chip Capacitor, 2-Leads, Body 1/60x0/80mm, IPC Medium Density)
footprint CAPC1608X07M - 0603 (Chip Capacitor, 2-Leads, Body 1/60x0/80mm, IPC Low Density)
footprint CAPC1608X07L - 0603 (Chip Capacitor, 2-Leads, Body 1/60x0/80mm, IPC High Density)
pins: 1, 2

## CAP_4.7uF-25V-10%-0805-X7R
designator C?, comment 4.7uF
CL21 Series 0805 4.7 uF 25 V X7R ±10% Tolerance Multilayer Ceramic Capacitor; Manufacturer: Samsung; Manufacturer Part Number: CL21B475KAFNNNE; Voltage Rating: 25V; Supplier 1: Digi-Key; RoHS: Yes; Category: Ceramic Capacitors; Stock 1: 297179; Pricing 1: 1=0/50000, 10=0/34600, 50=0/24260, 100=0/20790, 500=0/15592, 1000=0/13167 (USD); Mount: Surface Mount; Case/Package: 0805; Case Code (Metric): 2012; Case Code (Imperial): 0805; Min Operating Temperature: -55°C; Max Operating Temperature: 125°C; Packaging: Tape and Reel; Capacitance: 4.7uF; Tolerance: 10%; Voltage Rating (DC): 25V; Series: CL; Length: 0.079inch; Width: 0.049inch; Thickness: 0.053inch; Lead Free: Lead Free; RoHS Compliant: Yes; ComponentLink1URL: https://datasheet.ciiva.com/25711/cl21b475kafnnne-25711752.pdf?src-supplier=Digi-Key; ComponentLink1Description: https://datasheet.ciiva.com/25711/cl21b475kafnnne-25711752.pdf?src-supplier=Digi-Key; Supplier Part Number 1: 1276-2969-1-ND
footprint CAPC2012X14N - 0805 (Chip Capacitor, 2-Leads, Body 2/00x1/25mm, IPC Medium Density)
footprint CAPC2012X14M - 0805 (Chip Capacitor, 2-Leads, Body 2/00x1/25mm, IPC Low Density)
footprint CAPC2012X14L - 0805 (Chip Capacitor, 2-Leads, Body 2/00x1/25mm, IPC High Density)
pins: 1, 2

## CAP_10nF-100V-10%-0805-X7R
designator C?, comment 10nF
Cap Ceramic 0.01uF 100V X7R 10% Pad SMD 0805 125C T/R; Manufacturer: Samsung; Manufacturer Part Number: CL21B103KCANNNC; Supplier 1: Digi-Key; RoHS: Yes; Category: Ceramic Capacitors; Stock 1: 12920; Pricing 1: 1=0/10000, 10=0/04000, 50=0/02180, 100=0/01780, 500=0/01270, 1000=0/00998 (USD); Mount: Surface Mount; Case/Package: 0805; Case Code (Metric): 2012; Case Code (Imperial): 0805; Material: Ceramic; Contact Plating: Tin; Min Operating Temperature: -55°C; Max Operating Temperature: 125°C; Capacitance: 10nF; Tolerance: 10%; Packaging: Tape and Reel; Package Quantity: 1; Voltage Rating: 100V; Dielectric: X7R; Voltage: 100V; Series: CL; Construction: Flat; Length: 2mm; Width: 0.049inch; Height: 0.65mm; Thickness: 0.03inch; Depth: 1.25mm; Radiation Hardening: No; RoHS Compliant: Yes; ComponentLink1URL: https://datasheet.ciiva.com/15195/getdatasheetpartid-494350-15195869.pdf?src-supplier=Verical; ComponentLink1Description: https://datasheet.ciiva.com/15195/getdatasheetpartid-494350-15195869.pdf?src-supplier=Verical; ComponentLink2URL: https://datasheet.ciiva.com/29199/455069-da-01-en-vs-kondensator-0805-29199454.pdf?src-supplier=Conrad; ComponentLink2Description: https://datasheet.ciiva.com/29199/455069-da-01-en-vs-kondensator-0805-29199454.pdf?src-supplier=Conrad; ComponentLink3URL: https://datasheet.ciiva.com/26310/mlcc-catalogdownload2013-eng-26310214.pdf?src-supplier=Distrelec; ComponentLink3Description: https://datasheet.ciiva.com/26310/mlcc-catalogdownload2013-eng-26310214.pdf?src-supplier=Distrelec; ComponentLink4URL: https://datasheet.ciiva.com/16351/cl21b103kcannnc-16351132.pdf?src-supplier=Future+Electronics; ComponentLink4Description: https://datasheet.ciiva.com/16351/cl21b103kcannnc-16351132.pdf?src-supplier=Future+Electronics; Supplier Part Number 1: 1276-1249-1-ND
footprint CAPC2012X14N - 0805 (Chip Capacitor, 2-Leads, Body 2/00x1/25mm, IPC Medium Density)
footprint CAPC2012X14M - 0805 (Chip Capacitor, 2-Leads, Body 2/00x1/25mm, IPC Low Density)
footprint CAPC2012X14L - 0805 (Chip Capacitor, 2-Leads, Body 2/00x1/25mm, IPC High Density)
pins: 1, 2

## CAP_10pF-50V-0.25pF-0402-C0G
designator C?, comment 10pF
Cap Ceramic 10pF 50V C0G 0.25pF Pad SMD 0402 125C T/R; Manufacturer: Samsung; Manufacturer Part Number: CL05C100CB5NNNC; Temperature Coefficient: 300ppm/°C; Supplier 1: Digi-Key; RoHS: Yes; Category: Ceramic Capacitors; Stock 1: 284300; Pricing 1: 1=0/10000, 10=0/03200, 50=0/01720, 100=0/01410, 500=0/01004, 1000=0/00789, 2500=0/00717, 5000=0/00660 (USD); Mount: Surface Mount; Case/Package: 0402; Case Code (Metric): 1005; Case Code (Imperial): 0402; Material: Ceramic; Contact Plating: Tin; Min Operating Temperature: -55°C; Max Operating Temperature: 125°C; Package Quantity: 1; Packaging: Tape and Reel; Capacitance: 10pF; Voltage Rating: 50V; Dielectric: C0G; Voltage: 50V; Series: CL; Construction: Flat; Length: 1mm; Width: 0.02inch; Height: 0.5mm; Thickness: 0.022inch; Depth: 0.5mm; Radiation Hardening: No; RoHS Compliant: Yes; ComponentLink1URL: https://datasheet.ciiva.com/16426/cl05c100cb5nnnc-16426327.pdf?src-supplier=Future+Electronics; ComponentLink1Description: https://datasheet.ciiva.com/16426/cl05c100cb5nnnc-16426327.pdf?src-supplier=Future+Electronics; ComponentLink2URL: https://datasheet.ciiva.com/15195/getdatasheetpartid-359686-15195662.pdf?src-supplier=Verical; ComponentLink2Description: https://datasheet.ciiva.com/15195/getdatasheetpartid-359686-15195662.pdf?src-supplier=Verical; ComponentLink3URL: https://datasheet.ciiva.com/29198/458747-da-01-en-vs-kondensator-0402-29198430.pdf?src-supplier=Conrad; ComponentLink3Description: https://datasheet.ciiva.com/29198/458747-da-01-en-vs-kondensator-0402-29198430.pdf?src-supplier=Conrad; ComponentLink4URL: https://datasheet.ciiva.com/26309/mlcc-catalogdownload2013-eng-26309023.pdf?src-supplier=Distrelec; ComponentLink4Description: https://datasheet.ciiva.com/26309/mlcc-catalogdownload2013-eng-26309023.pdf?src-supplier=Distrelec; Supplier Part Number 1: 1276-1623-1-ND
footprint CAPC1005X07N - 0402 (Chip Capacitor, 2-Leads, Body 1/00x0/50mm, IPC Medium Density)
footprint CAPC1005X07M - 0402 (Chip Capacitor, 2-Leads, Body 1/00x0/50mm, IPC Low Density)
footprint CAPC1005X07L - 0402 (Chip Capacitor, 2-Leads, Body 1/00x0/50mm, IPC High Density)
pins: 1, 2

## CAP_10uF-10V-10%-0603-X5R
designator C?, comment 10uF
Cap Ceramic 10uF 10V X5R 10% Pad SMD 0603 85C T/R; Manufacturer: Samsung; Manufacturer Part Number: CL10A106KP8NNNC; Supplier 1: Digi-Key; RoHS: Yes; Category: Ceramic Capacitors; Pricing 1: 1=0/21000, 10=0/15100, 50=0/08580, 100=0/07100, 500=0/04978, 1000=0/04122 (USD); Mount: Surface Mount; Case/Package: 0603; Case Code (Metric): 1608; Case Code (Imperial): 0603; Material: Ceramic; Contact Plating: Tin; Min Operating Temperature: -55°C; Max Operating Temperature: 85°C; Capacitance: 10uF; Tolerance: 10%; Package Quantity: 1; Packaging: Tape and Reel; Voltage Rating: 10V; Dielectric: X5R; Voltage Rating (DC): 10V; Series: CL; Construction: Flat; Length: 1.6mm; Width: 0.031inch; Height: 0.8mm; Thickness: 0.035inch; Depth: 0.8mm; Radiation Hardening: No; Lead Free: Lead Free; RoHS Compliant: Yes; ComponentLink1URL: https://datasheet.ciiva.com/26877/getdatasheetpartid-359551-26877881.pdf?src-supplier=Verical; ComponentLink1Description: https://datasheet.ciiva.com/26877/getdatasheetpartid-359551-26877881.pdf?src-supplier=Verical; ComponentLink2URL: https://datasheet.ciiva.com/29198/457369-da-01-en-vs-kondensator-0603-29198790.pdf?src-supplier=Conrad; ComponentLink2Description: https://datasheet.ciiva.com/29198/457369-da-01-en-vs-kondensator-0603-29198790.pdf?src-supplier=Conrad; ComponentLink3URL: https://datasheet.ciiva.com/16200/cl05b104kq5nnnc-16200766.pdf?src-supplier=Future+Electronics; ComponentLink3Description: https://datasheet.ciiva.com/16200/cl05b104kq5nnnc-16200766.pdf?src-supplier=Future+Electronics; Supplier Part Number 1: 1276-1192-1-ND
footprint CAPC1608X07N - 0603 (Chip Capacitor, 2-Leads, Body 1/60x0/80mm, IPC Medium Density)
footprint CAPC1608X07M - 0603 (Chip Capacitor, 2-Leads, Body 1/60x0/80mm, IPC Low Density)
footprint CAPC1608X07L - 0603 (Chip Capacitor, 2-Leads, Body 1/60x0/80mm, IPC High Density)
pins: 1, 2

## CAP_10uF-10V-20%-0402-X5R
designator C?, comment 10uF
Cap Ceramic 10uF 10V X5R 20% SMD 0402 85°C Paper T/R; Manufacturer: Samsung; Manufacturer Part Number: CL05A106MP5NUNC; Supplier 1: Digi-Key; RoHS: Yes; Category: Ceramic Capacitors; Pricing 1: 1=0/19000, 10=0/13200, 50=0/07900, 100=0/06670, 500=0/04564, 1000=0/04038, 2500=0/03862, 5000=0/03511 (USD); Mount: Surface Mount; Case/Package: 0402; Case Code (Metric): 1005; Case Code (Imperial): 0402; Contact Plating: Tin; Min Operating Temperature: -55°C; Max Operating Temperature: 85°C; Package Quantity: 1; Packaging: Tape and Reel; Capacitance: 10uF; Tolerance: 20%; Voltage Rating: 10V; Dielectric: X5R; Termination: Wraparound; Series: CL; Construction: Flat; Length: 1mm; Width: 0.02inch; Thickness: 0.028inch; Depth: 0.5mm; Radiation Hardening: No; Lead Free: Lead Free; RoHS Compliant: Yes; ComponentLink1URL: https://datasheet.ciiva.com/25721/cl05a106mp5nunc-25721584.pdf?src-supplier=Digi-Key; ComponentLink1Description: https://datasheet.ciiva.com/25721/cl05a106mp5nunc-25721584.pdf?src-supplier=Digi-Key; ComponentLink2URL: https://datasheet.ciiva.com/26838/getdatasheetpartid-745310-26838170.pdf?src-supplier=Verical; ComponentLink2Description: https://datasheet.ciiva.com/26838/getdatasheetpartid-745310-26838170.pdf?src-supplier=Verical; Supplier Part Number 1: 1276-1450-1-ND
footprint CAPC1005X07N - 0402 (Chip Capacitor, 2-Leads, Body 1/00x0/50mm, IPC Medium Density)
footprint CAPC1005X07M - 0402 (Chip Capacitor, 2-Leads, Body 1/00x0/50mm, IPC Low Density)
footprint CAPC1005X07L - 0402 (Chip Capacitor, 2-Leads, Body 1/00x0/50mm, IPC High Density)
pins: 1, 2